# EAGLE library part 330R-1%_ARRAY (library ds_resistor)
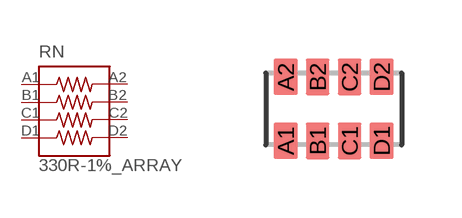
[diagram p6: symbol with the pads of _0603X4-1206; footprint _0603X4-1206]

Designator prefix RN

## 330R-1%_ARRAY0603X4-1206 (DESCRIPTION: 4 ±1% 330Ω 62.5mW ±200ppm/℃ 0603x4 Resistor Networks, Arrays ROHS; HQ_PART: RE0094815; MANUFACTURER: Yageo; MPN: YC164-FR-07330RL; PACKAGE: _0603X4-1206; ROHS: YES; VALUE: 330R 1%)  [_0603X4-1206]
A1  1  pas
A2  8  pas
B1  2  pas
B2  7  pas
C1  3  pas
C2  6  pas
D1  4  pas
D2  5  pas

## Footprint _0603X4-1206 (pad centres in mm)
smd 0.59 x 0.92: A1 -1.2,-0.8; A2 -1.2,0.8; B1 -0.4,-0.8; B2 -0.4,0.8; C1 0.4,-0.8; C2 0.4,0.8; D1 1.2,-0.8; D2 1.2,0.8